# EAGLE library part REG71050DDCT (library REG71050DDCT)
Buck/Boost Charge Pump
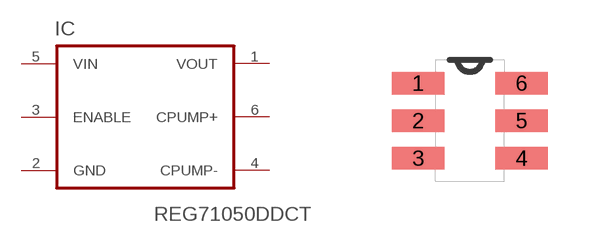
[diagram p0: symbol with the pads of SOT95P180X110-6N; footprint SOT95P180X110-6N]

Designator prefix IC

## REG71050DDCT (AVAILABILITY: Unavailable; DESCRIPTION: Regulators - Non-Isolated Switching DC/DC 60-mA, 5.0V, Buck/ Boost Charge Pump; MF: Texas Instruments; MP: REG71050DDCT; PACKAGE: TSOT-23 Texas Instruments; PRICE: None)  [SOT95P180X110-6N]
1  VOUT  out
2  GND  pas
3  ENABLE  in
4  CPUMP-  in
5  VIN  pwr
6  CPUMP+  in

## Footprint SOT95P180X110-6N (pad centres in mm)
smd 1.321 x 0.559: 1 -1.295,0.94; 2 -1.295,0; 3 -1.295,-0.94; 4 1.295,-0.94; 5 1.295,0; 6 1.295,0.94